# EAGLE library part SUPERSEAL1.0_26POS_2ROW (library TE)
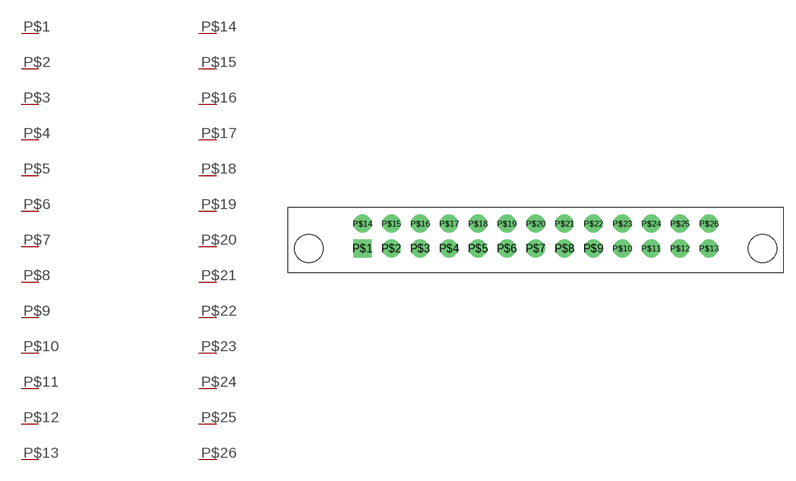
[diagram p2: symbol with the pads of SUPERSEAL1.0_26POS_2ROW; footprint SUPERSEAL1.0_26POS_2ROW]

Designator prefix -

## SUPERSEAL1.0_26POS_2ROW  [SUPERSEAL1.0_26POS_2ROW]
P$1  B1
P$2  B2
P$3  B3
P$4  B4
P$5  B5
P$6  B6
P$7  B7
P$8  B8
P$9  B9
P$10  B10
P$11  B11
P$12  B12
P$13  B13
P$14  B14
P$15  B15
P$16  B16
P$17  B17
P$18  B18
P$19  B19
P$20  B20
P$21  B21
P$22  B22
P$23  B23
P$24  B24
P$25  B25
P$26  B26

## Footprint SUPERSEAL1.0_26POS_2ROW (pad centres in mm)
drill 1.3 pad 2.184 square: P$1 6.5,0
drill 1.3 pad 2.184: P$2 10,0; P$3 13.5,0; P$4 17,0; P$5 20.5,0; P$6 24,0; P$7 27.5,0; P$8 31,0; P$9 34.5,0; P$10 38,0; P$11 41.5,0; P$12 45,0; P$13 48.5,0; P$14 6.5,3; P$15 10,3; P$16 13.5,3; P$17 17,3; P$18 20.5,3; P$19 24,3; P$20 27.5,3; P$21 31,3; P$22 34.5,3; P$23 38,3; P$24 41.5,3; P$25 45,3; P$26 48.5,3
hole 3.4 at 0,0
hole 3.4 at 55,0